# Altium footprint library 测试调试.PcbLib: 24 footprints (part 1 of 2)
Each footprint in its own frame and in the unit in brackets; x right, y up, seen from the top. Pads: shape width x height; smd on the part's side, far side on the other; paste and mask are expansions set on the pad; w line width, h text height; cw(c..) or ccw(c..) is an arc to the next point about the centre after c.
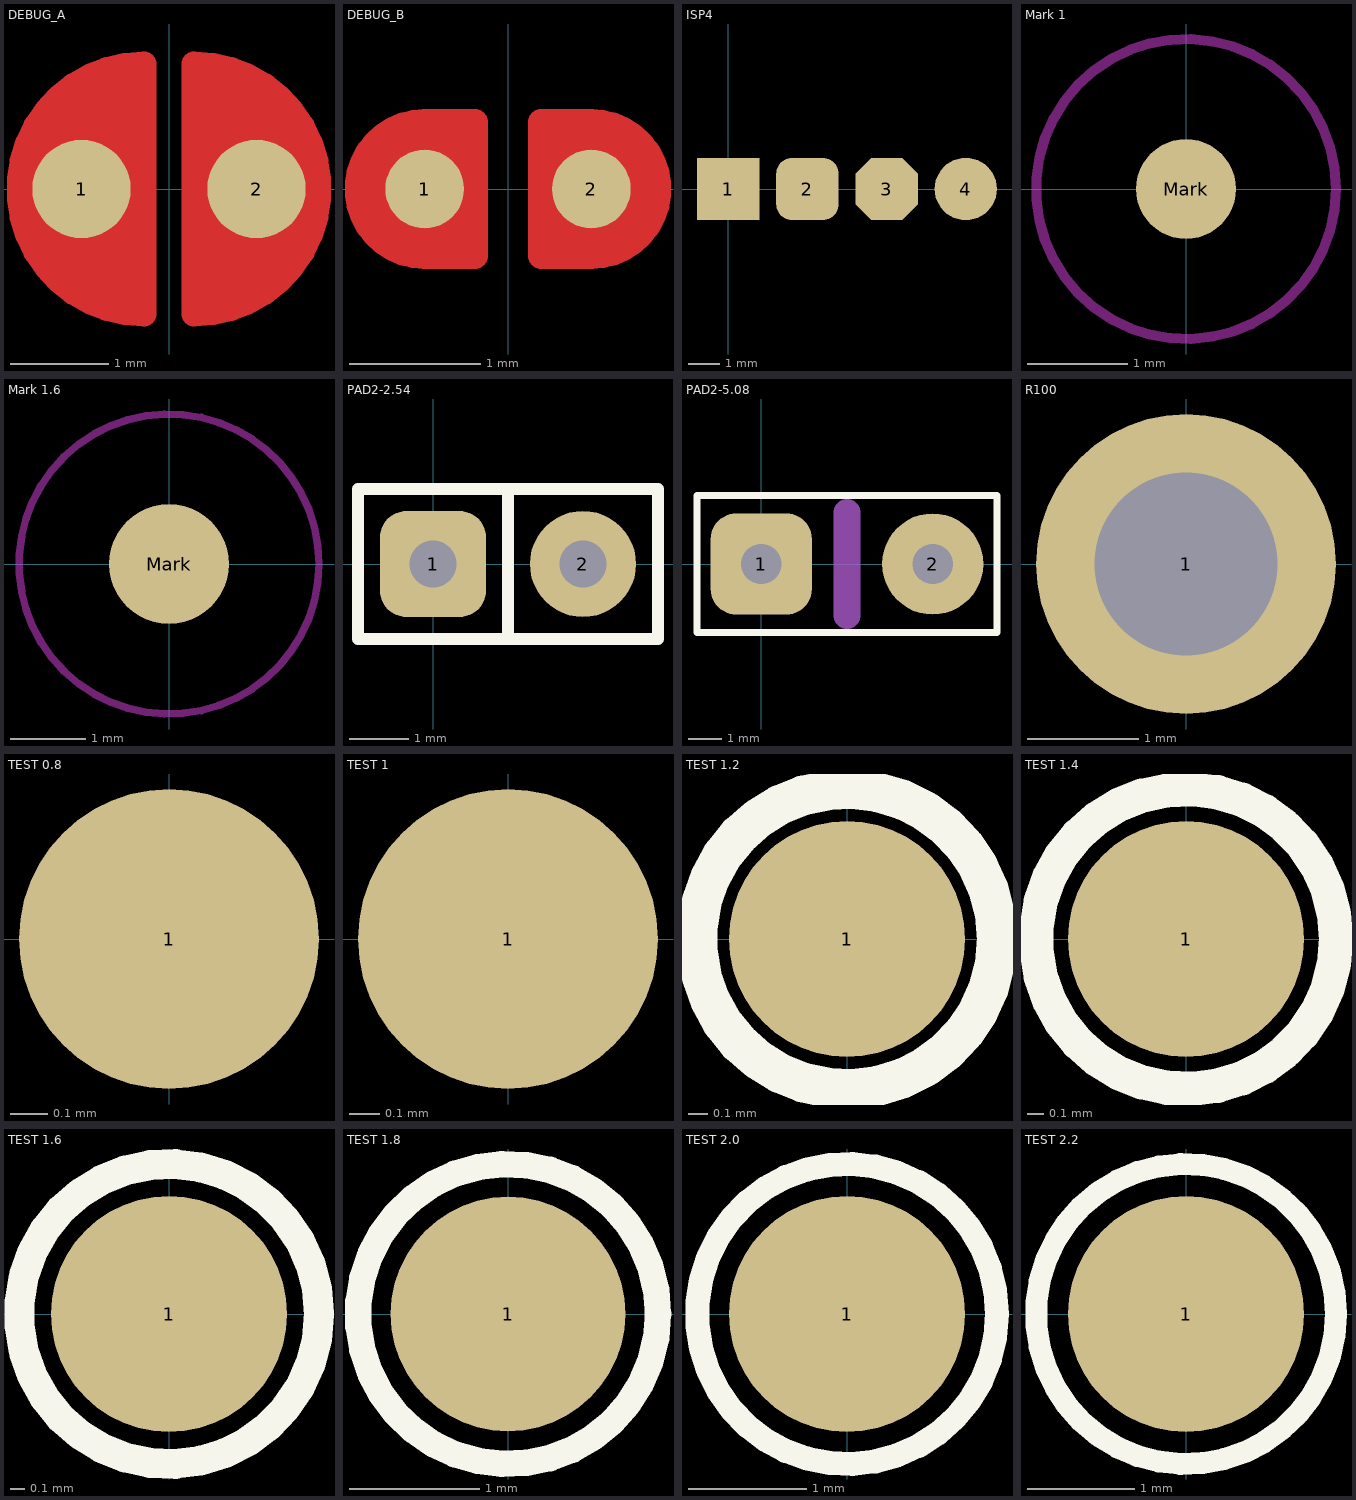
[diagram p0: the footprints below, top view; thin cyan lines are the x and y axes]

## DEBUG_A [mm] "调试断点焊盘"
pads (2):
  round 1 smd paste-1: 1(-0.889,0) 2(0.889,0)
Top Layer:
  region: -0.254,1.27 -0.254,-1.27 -0.762,-1.143 -1.397,-0.508 -1.524,0.254 -1.27,0.762 -1.016,1.016 -0.508,1.27
  region: 0.254,1.27 0.254,-1.27 0.762,-1.143 1.397,-0.508 1.524,0.254 1.27,0.762 1.016,1.016 0.508,1.27
  lines w0.254: -0.254,-1.27 cw(c-0.254,0) -0.254,1.27 -0.254,-1.27 ; 0.254,-1.27 ccw(c0.254,0) 0.254,1.27 0.254,-1.27
Top Solder:
  region: 0.254,1.27 0.254,-1.27 0.762,-1.143 1.397,-0.508 1.524,0.254 1.27,0.762 1.016,1.016 0.508,1.27
  region: -0.254,1.27 -0.254,-1.27 -0.762,-1.143 -1.397,-0.508 -1.524,0.254 -1.27,0.762 -1.016,1.016 -0.508,1.27
  lines w0.254: -0.254,-1.27 cw(c-0.254,0) -0.254,1.27 -0.254,-1.27 ; 0.254,-1.27 ccw(c0.254,0) 0.254,1.27 0.254,-1.27

## DEBUG_B [mm] "调试断点焊盘"
pads (2):
  round 0.6 smd paste-0.6: 1(-0.635,0) 2(0.635,0)
Top Layer:
  region: 0.254,-0.508 0.762,-0.508 0.838,-0.508 0.978,-0.45 1.085,-0.343 1.143,-0.203 1.143,-0.127 1.143,0 1.143,0.101 1.066,0.288 0.923,0.431 0.736,0.508 0.635,0.508 0.254,0.508
  region: -0.254,0.508 -0.762,0.508 -0.838,0.508 -0.978,0.45 -1.085,0.343 -1.143,0.203 -1.143,0.127 -1.143,0 -1.143,-0.101 -1.066,-0.288 -0.923,-0.431 -0.736,-0.508 -0.635,-0.508 -0.254,-0.508
  lines w0.203: -0.635,-0.508 cw(c-0.635,0) -0.635,0.508 -0.254,0.508 -0.254,-0.508 -0.635,-0.508 ; 0.254,-0.508 0.254,0.508 0.635,0.508 cw(c0.635,0) 0.635,-0.508 0.254,-0.508
Top Solder:
  region: 0.254,-0.508 0.635,-0.508 0.736,-0.508 0.923,-0.431 1.066,-0.288 1.143,-0.101 1.143,0 1.143,0.101 1.066,0.288 0.923,0.431 0.736,0.508 0.635,0.508 0.254,0.508
  region: -0.254,0.508 -0.635,0.508 -0.736,0.508 -0.923,0.431 -1.066,0.288 -1.143,0.101 -1.143,0 -1.143,-0.101 -1.066,-0.288 -0.923,-0.431 -0.736,-0.508 -0.635,-0.508 -0.254,-0.508
  lines w0.203: -0.635,-0.508 cw(c-0.635,0) -0.635,0.508 -0.254,0.508 -0.254,-0.508 -0.635,-0.508 ; 0.254,-0.508 0.635,-0.508 ccw(c0.635,0) 0.635,0.508 0.254,0.508 0.254,-0.508

## ISP4 [mm] "4P测试点"
pads (4):
  rect 2x2 smd: 1(0,0)
  rrect50% 2x2 smd: 2(2.54,0)
  oct 2x2 smd: 3(5.08,0)
  round 2 smd: 4(7.62,0)

## Mark 1 [mm] "光学定位点，直径1mm"
pads (1):
  round 1 smd paste-1 mask+0.7: Mark(0,0)
Keep-Out Layer:
  circle w0.1: c0,0 r1.5

## Mark 1.6 [mm] "光学定位点，直径1.6mm"
pads (1):
  round 1.6 smd paste-1.6 mask+0.9: Mark(0,0)
Keep-Out Layer:
  circle w0.1: c0,0 r2

## PAD2-2.54 [mm] "引线焊盘"
pads (2):
  rrect50% 1.8x1.8 hole 0.8: 1(0,0)
  round 1.8 hole 0.8: 2(2.54,0)
Top Overlay:
  lines w0.203: 1.27,-1.27 1.27,1.27 ; -1.27,-1.27 3.81,-1.27 3.81,1.27 -1.27,1.27 -1.27,-1.27

## PAD2-5.08 [mm] "引线焊盘"
pads (2):
  rrect50% 3x3 hole 1.2: 1(0,0)
  round 3 hole 1.2: 2(5.08,0)
Top Overlay:
  lines w0.203: -1.905,-2.032 6.985,-2.032 6.985,2.032 -1.905,2.032 -1.905,-2.032
Mechanical 1:
  lines w0.8: 2.54,-1.524 2.54,1.524

## R100 [mm] "R100探针焊盘"
pads (1):
  round 2.7 hole 1.651: 1(0,0)

## TEST 0.8 [mm] "测试点0.8mm"
pads (1):
  round 0.8 smd: 1(0,0)

## TEST 1 [mm] "测试点1mm"
pads (1):
  round 1 smd paste-1: 1(0,0)

## TEST 1.2 [mm] "测试点1.2mm"
pads (1):
  round 1.2 smd paste-1.2: 1(0,0)
Top Overlay:
  circle w0.203: c0,0 r0.762

## TEST 1.4 [mm] "测试点1.4mm"
pads (1):
  round 1.4 smd paste-1.4: 1(0,0)
Top Overlay:
  circle w0.203: c0,0 r0.889

## TEST 1.6 [mm] "测试点1.6mm"
pads (1):
  round 1.6 smd paste-1.6: 1(0,0)
Top Overlay:
  circle w0.203: c0,0 r1.016

## TEST 1.8 [mm] "测试点1.8mm"
pads (1):
  round 1.8 smd paste-1.8: 1(0,0)
Top Overlay:
  circle w0.203: c0,0 r1.15

## TEST 2.0 [mm] "测试点2.0mm"
pads (1):
  round 2 smd paste-2: 1(0,0)
Top Overlay:
  circle w0.203: c0,0 r1.27

## TEST 2.2 [mm] "测试点2.2mm"
pads (1):
  round 2.2 smd paste-2.2: 1(0,0)
Top Overlay:
  circle w0.203: c0,0 r1.397